# EAGLE library part RPI (library EspressoParts)
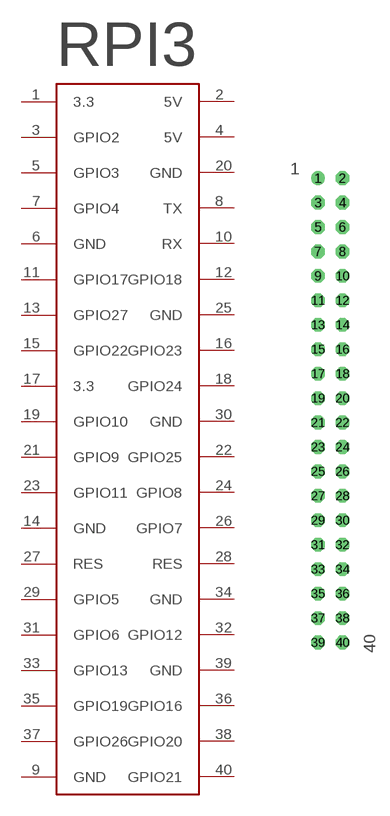
[diagram p3: symbol with the pads of FE20-2; footprint FE20-2]

Designator prefix -

## RPI  [FE20-2]
1  3.3
2  5V
3  GPIO2
4  5V
5  GPIO3
6  GND
7  GPIO4
8  TX
9  GND
10  RX
11  GPIO17
12  GPIO18
13  GPIO27
14  GND
15  GPIO22
16  GPIO23
17  3.3
18  GPIO24
19  GPIO10
20  GND
21  GPIO9
22  GPIO25
23  GPIO11
24  GPIO8
25  GND
26  GPIO7
27  RES
28  RES
29  GPIO5
30  GND
31  GPIO6
32  GPIO12
33  GPIO13
34  GND
35  GPIO19
36  GPIO16
37  GPIO26
38  GPIO20
39  GND
40  GPIO21

## Footprint FE20-2 (pad centres in mm)
FEMALE HEADER
drill 0.914: 1 -13.97,12.7
drill 0.914 octagon: 2 -11.43,12.7; 3 -13.97,10.16; 4 -11.43,10.16; 5 -13.97,7.62; 6 -11.43,7.62; 7 -13.97,5.08; 8 -11.43,5.08; 9 -13.97,2.54; 10 -11.43,2.54; 11 -13.97,0; 12 -11.43,0; 13 -13.97,-2.54; 14 -11.43,-2.54; 15 -13.97,-5.08; 16 -11.43,-5.08; 17 -13.97,-7.62; 18 -11.43,-7.62; 19 -13.97,-10.16; 20 -11.43,-10.16; 21 -13.97,-12.7; 22 -11.43,-12.7; 23 -13.97,-15.24; 24 -11.43,-15.24; 25 -13.97,-17.78; 26 -11.43,-17.78; 27 -13.97,-20.32; 28 -11.43,-20.32; 29 -13.97,-22.86; 30 -11.43,-22.86; 31 -13.97,-25.4; 32 -11.43,-25.4; 33 -13.97,-27.94; 34 -11.43,-27.94; 35 -13.97,-30.48; 36 -11.43,-30.48; 37 -13.97,-33.02; 38 -11.43,-33.02; 39 -13.97,-35.56; 40 -11.43,-35.56